# EAGLE library part SHARP_LS0-FPC-MEMORY-LCD (library m_opto)
Sharp Monochrome Memory LCD with FPC Connector
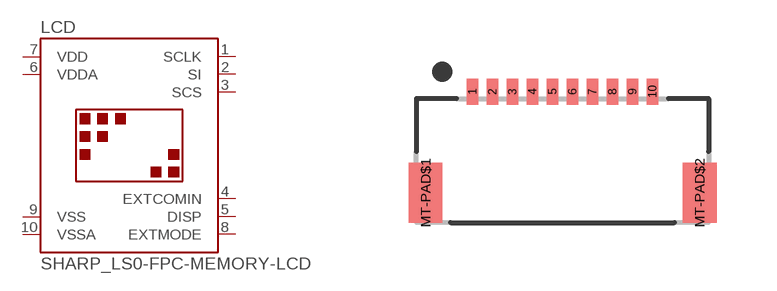
[diagram p2: symbol with the pads of MOLEX_51441-1093; footprint MOLEX_51441-1093]

Designator prefix LCD

## SHARP_LS0-FPC-MEMORY-LCD (MANUF: Sharp; PARTNUM: LS0__)  [MOLEX_51441-1093]
1  SCLK
2  SI
3  SCS
4  EXTCOMIN
5  DISP
6  VDDA
7  VDD
8  EXTMODE
9  VSS
10  VSSA

## Footprint MOLEX_51441-1093 (pad centres in mm)
Molex 0.5mm pitch surface mount ribbon connector, 10 conductor
smd 0.29 x 0.65: 1 -2.25,0; 2 -1.75,0; 3 -1.25,0; 4 -0.75,0; 5 -0.25,0; 6 0.25,0; 7 0.75,0; 8 1.25,0; 9 1.75,0; 10 2.25,0
smd 0.85 x 1.5: MT-PAD$1 -3.425,-2.525; MT-PAD$2 3.425,-2.525